# Altium schematic symbol library BFT92.Schlib: 1 symbol
Pins are listed as number, name and electrical type; pins without a type are passive.

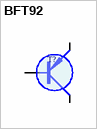
[diagram p0: symbol BFT92]

## BFT92
designator T?
SOT23     15V 25mA   5GHz 0.7p   NF 2.5db
pins: 1 B, 2 E (oe), 3 C (oc)
1 alternate drawing of the same symbol